# EAGLE library part TQ2SA-3V-Z (library magic-camper-node)
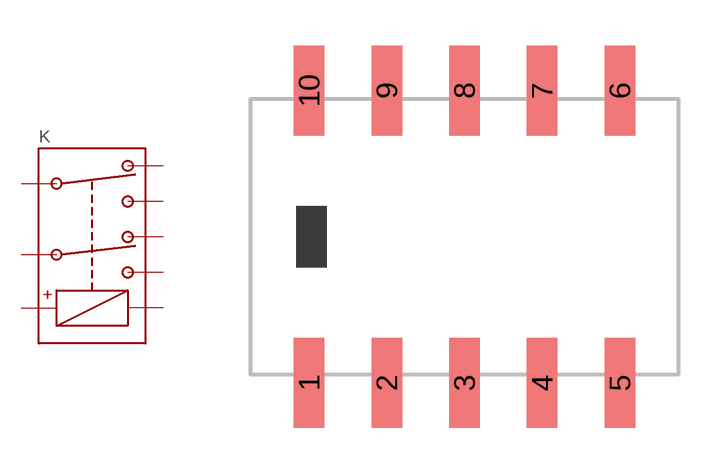
[diagram p0: symbol with the pads of TQ2SA-3V-Z; footprint TQ2SA-3V-Z]

Designator prefix K

## TQ2SA-3V-Z (PARTNO: TQ2SA-3V-Z)  [TQ2SA-3V-Z]
1  COIL+
2  NC1
3  COM1
4  NO1
7  NO2
8  COM2
9  NC2
10  COIL-

## Footprint TQ2SA-3V-Z (pad centres in mm)
smd 1 x 2.94: 1 -5.08,-4.78; 2 -2.54,-4.78; 3 0,-4.78; 4 2.54,-4.78; 5 5.08,-4.78; 6 5.08,4.78; 7 2.54,4.78; 8 0,4.78; 9 -2.54,4.78; 10 -5.08,4.78